# Altium schematic symbol library HyTechSymbols.SCHLIB: 59 symbols
Pins are listed as number, name and electrical type; pins without a type are passive.

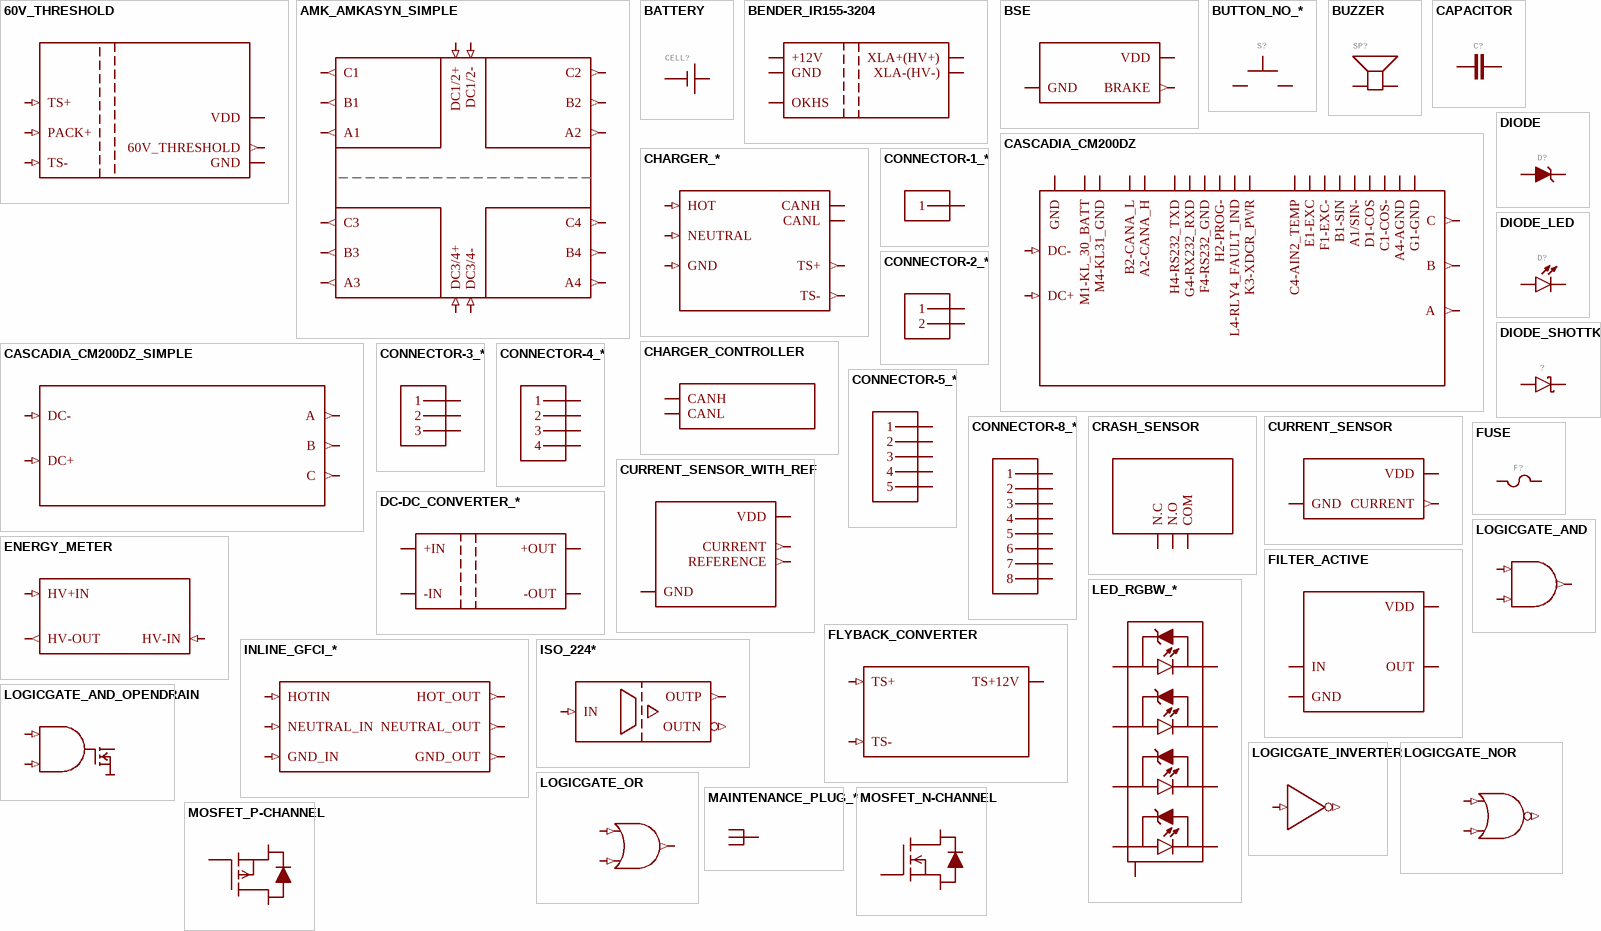
[diagram p0: symbols 60V_THRESHOLD to MOSFET_P-CHANNEL]

## 60V_THRESHOLD
designator A?, comment Block reprentation of the logic that indicates when the accumulator has reached 60V.  (value not drawn)
GateName_1: G$1; SymbolName_1: 60V_THRESHOLD; LibraryName: HyTechSymbols; DeviceSetName: 60V_THRESHOLD
pins: ?1 TS+ (in), ?2 PACK+ (in), ?3 TS- (in), ?4 GND (power), ?5 VDD (power), ?6 60V_THRESHOLD (out)

## AMK_AMKASYN_SIMPLE
designator ?, comment AMK AMKSYN  KW26-S5-FSE-4Q Inverter  (value not drawn)
GateName_1: G$1; SymbolName_1: AMK_AMKASYN_SIMPLE; LibraryName: HyTechSymbols; DeviceSetName: AMK_AMKASYN_SIMPLE
pins: ?1 C2 (out), ?2 B2 (out), ?3 A2 (out), ?4 DC3/4+ (in), ?5 DC3/4- (in), ?6 A1 (out), ?7 B1 (out), ?8 C1 (out), ?9 A3 (out), ?10 B3 (out), ?11 C3 (out), ?12 C4 (out), ?13 B4 (out), ?14 A4 (out), ?15 DC1/2+ (in), ?16 DC1/2- (in)

## BATTERY
designator CELL?
GateName_1: G$1; SymbolName_1: BATTERY; LibraryName: HyTechSymbols; DeviceSetName: BATTERY
pins: ?1 P$1 (power), ?2 P$2 (power)

## BENDER_IR155-3204
designator ?, comment Bender IR155-3204 Insulation Monitoring Device   Datasheet  (value not drawn)
GateName_1: G$1; SymbolName_1: BENDER_IR155-3204; LibraryName: HyTechSymbols; DeviceSetName: BENDER_IR155-3204
pins: ?1 GND (io), ?2 +12V (io), ?3 OKHS (io), ?4 XLA-(HV-) (io), ?5 XLA+(HV+) (io)

## BSE
designator A?, comment Brake system encoder  M3031-000005-2K5PG  (value not drawn)
MANUFACTURER: Sensata; MPN: 9360 Series; MANUFACTURER: TE Connectivity; GateName_1: G$1; SymbolName_1: BRAKE_SYSTEM_ENCODER; DeviceSetName: BSE; LibraryName: HyTechSymbols; MPN: M3031-000005-2K5PG
pins: ?1 BRAKE (out), ?2 VDD (power), ?3 GND (power)

## BUTTON_NO_*
designator S?, comment Normally open pushbutton  OTTO P9 Series Pushbutton Switches  OTTO LP9 Series Illuminated Pushbutton Switches  (value not drawn)
GateName_1: G$1; SymbolName_1: BUTTON_NO; DeviceSetName: BUTTON_NO_*; LibraryName: HyTechSymbols; MANUFACTURER: OTTO; MPN: LP9; MPN: P9
pins: ?1 P$1, ?2 P$2

## BUZZER
designator SP?, comment SPEAKER   Prouct Page (Ready to Drive Sound)   Source: Schukat  (value not drawn)
GateName_1: 1; SymbolName_1: BUZZER; LibraryName: HyTechSymbols; DeviceSetName: BUZZER
pins: ?1 1, ?2 2

## CAPACITOR
designator C?
GateName_1: G$1; SymbolName_1: CAPACITOR_VALUE; DeviceSetName: CAPACITOR; LibraryName: HyTechSymbols
pins: ?1 1, ?2 2

## CASCADIA_CM200DZ
designator A?, comment Cascaida Motion CM200DZ Motor Inverter  Product Page Datasheet  (value not drawn)
GateName_1: G$1; SymbolName_1: CASCADIA_CM200DZ; LibraryName: HyTechSymbols; DeviceSetName: CASCADIA_CM200DZ
pins: ?1 A (out), ?2 B (out), ?3 C (out), ?4 DC+ (in), ?5 DC- (in), ?6 B2-CANA_L (io), ?7 A2-CANA_H (io), ?8 M1-KL_30_BATT (power), ?9 M4-KL31_GND (power), ?10 H4-RS232_TXD (io), ?11 G4-RX232_RXD (io), ?12 H2-PROG- (io), ?13 L4-RLY4_FAULT_IND (io), ?14 F4-RS232_GND (power), ?15 E1-EXC (io), ?16 F1-EXC- (io), ?17 B1-SIN (io), ?18 A1/SIN- (io), ?19 D1-COS (io), ?20 C1-COS- (io), ?21 A4-AGND (power), ?22 C4-AIN2_TEMP (io), ?23 K3-XDCR_PWR (power), ?24 GND (power), ?25 G1-GND (power)

## CASCADIA_CM200DZ_SIMPLE
designator A?, comment Cascaida Motion CM200DZ Motor Inverter  Product Page Datasheet  (value not drawn)
GateName_1: G$1; SymbolName_1: CASCADIA_CM200DZ-SIMPLE; DeviceSetName: CASCADIA_CM200DZ_SIMPLE; LibraryName: HyTechSymbols
pins: ?1 A (out), ?2 B (out), ?3 C (out), ?4 DC+ (in), ?5 DC- (in)

## CHARGER_*
designator A?, comment OVARTECH Charger Cascadia Motion Charger  (value not drawn)
MANUFACTURER: OVAR; MPN: CAD662DF400-14152; MPN: G4-0017-01; MANUFACTURER: Elcon; MPN: HK-J-H650-12; GateName_1: G$1; SymbolName_1: BATTERY_CHARGER; DeviceSetName: CHARGER_*; LibraryName: HyTechSymbols; MANUFACTURER: Cascadia Motion
pins: ?1 TS+ (out), ?2 TS- (out), ?3 HOT (in), ?4 NEUTRAL (in), ?5 GND (in), ?6 CANH (io), ?7 CANL (io)

## CHARGER_CONTROLLER
designator A?, comment Block representation of the charger controller.  (value not drawn)
GateName_1: G$1; SymbolName_1: CHARGER_CONTROLLER; LibraryName: HyTechSymbols; DeviceSetName: CHARGER_CONTROLLER
pins: ?1 CANH (io), ?2 CANL (io)

## CONNECTOR-1_*
designator J?, comment Single pin connector  CT2242-2  LCAX2-14F-E  (value not drawn)
MPN: 10mm^2; MPN: 6mm^2; MANUFACTURER: Cal Test Electronics; MANUFACTURER: Panduit Corp; MANUFACTURER: Xinxi; MPN: X01-S01-T06S1-NM6; MPN: XX104-02-00-00B; GateName_1: G$1; SymbolName_1: CONNECTOR_01; DeviceSetName: CONNECTOR-1_*; LibraryName: HyTechSymbols; MPN: CT2242-2; MPN: LCAX2-14F-E
pins: ?1 1

## CONNECTOR-2_*
designator J?, comment Two pin connector  EVH2-N2TK-TDA  HPK  HVP800  (value not drawn)
MANUFACTURER: Molex; MPN: 0436500214; MANUFACTURER: Anderson Power Products; MPN: ASMFP30-1X2-RK; MANUFACTURER: Jonhon; MANUFACTURER: Hirose Electric; MPN: EM30MSD; MANUFACTURER: Rosenberger; MANUFACTURER: TE; MANUFACTURER: XINXI; MPN: XXC104-EV-P1ZA; GateName_1: G$1; SymbolName_1: CONNECTOR_02; DeviceSetName: CONNECTOR-2_*; LibraryName: HyTechSymbols; MPN: EVH2-N2TK-TDA; MPN: HPK; MPN: HVP800
pins: ?1 1, ?2 2

## CONNECTOR-3_*
designator J?, comment Three pin connector  XXC106-EV-P3Z    HV02-M3S(40A)-M00A-1    NEMA-5-20  (value not drawn)
MANUFACTURER: TE; MPN: 1-2371113-2; MPN: 2371035-2; MANUFACTURER: Jonhon; MANUFACTURER: NEMA; MPN: NEMA 5-20; MANUFACTURER: Xinxi; GateName_1: G$1; SymbolName_1: CONNECTOR_03; DeviceSetName: CONNECTOR-3_*; LibraryName: HyTechSymbols; MPN: HV02-M3S(40A)-M00A-1; MPN: XXC106-EV-P3Z
pins: ?1 1, ?2 2, ?3 3

## CONNECTOR-4_*
designator J?, comment Four pin connector  Micro-Fit 3.0  (value not drawn)
MANUFACTURER: Jonhon; MPN: EVH2-N4TK-TDA; MANUFACTURER: BADA; MPN: F02-629110-RA2; MANUFACTURER: Molex; GateName_1: G$1; SymbolName_1: CONNECTOR_04; DeviceSetName: CONNECTOR-4_*; LibraryName: HyTechSymbols; MPN: Micro-Fit 3.0
pins: ?1 1, ?2 2, ?3 3, ?4 4

## CONNECTOR-5_*
designator J?, comment Five pin connector  Micro-Fit 3.0  (value not drawn)
MANUFACTURER: Molex; MPN: 436500513; MPN: Microfit 3.0; GateName_1: G$1; SymbolName_1: CONNECTOR_05; DeviceSetName: CONNECTOR-5_*; LibraryName: HyTechSymbols
pins: ?1 1, ?2 2, ?3 3, ?4 4, ?5 5

## CONNECTOR-8_*
designator J?, comment Eight pin connector  Micro-Fit 3.0  (value not drawn)
MANUFACTURER: Molex; MPN: Microfit 3.0; GateName_1: G$1; SymbolName_1: CONNECTOR_08; DeviceSetName: CONNECTOR-8_*; LibraryName: HyTechSymbols
pins: ?1 1, ?2 2, ?3 3, ?4 4, ?5 5, ?6 6, ?7 7, ?8 8

## CRASH_SENSOR
designator ?, comment Sensata Crash Sensor  http://www.sensata.com/download/resettable-crash.pdf  (value not drawn)
GateName_1: G$1; SymbolName_1: CRASH_SENSOR; LibraryName: HyTechSymbols; DeviceSetName: CRASH_SENSOR
pins: ?1 N.C (io), ?2 N.O (io), ?3 COM (io)

## CURRENT_SENSOR
designator A?, comment Current sensor  ISB-100-A-802  (value not drawn)
MANUFACTURER: ICE Components; GateName_1: G$1; SymbolName_1: CURRENT_SENSOR; LibraryName: HyTechSymbols; DeviceSetName: CURRENT_SENSOR; MPN: ISB-100-A-802
pins: ?1 CURRENT (out), ?2 VDD (power), ?3 GND (power)

## CURRENT_SENSOR_WITH_REF
designator A?, comment Current sensor  ISB-100-A-802  (value not drawn)
MANUFACTURER: ICE Components; MPN: ISB-300-A-802; GateName_1: G$1; SymbolName_1: CURRENT_SENSOR_WITH_REF; LibraryName: HyTechSymbols; DeviceSetName: CURRENT_SENSOR_WITH_REF; MPN: ISB-100-A-802
pins: ?1 CURRENT (out), ?2 VDD (power), ?3 GND (power), ?4 REFERENCE (out)

## DC-DC_CONVERTER_*
designator ?, comment DC_DC Converter  Vicor DCM Series  (value not drawn)
MANUFACTURER: OVAR; MPN: CAD662DF400-14152; MANUFACTURER: Vicor Corporation; MPN: DCM4623TD2J13D0T70; GateName_1: G$1; SymbolName_1: DC-DC_CONVERTER; DeviceSetName: DC-DC_CONVERTER_*; LibraryName: HyTechSymbols
pins: ?1 +IN (io), ?2 -IN (io), ?3 +OUT (io), ?4 -OUT (io)

## DIODE
designator D?
GateName_1: G$1; SymbolName_1: DIODE_ZENER; DeviceSetName: DIODE; LibraryName: HyTechSymbols
pins: ?1 A, ?2 C

## DIODE_LED
designator D?
GateName_1: G$1; SymbolName_1: DIODE_LED; LibraryName: HyTechSymbols; DeviceSetName: DIODE_LED
pins: ?1 C, ?2 A

## DIODE_SHOTTKY
designator ?
GateName_1: G$1; SymbolName_1: DIODE_SCHOTTKY; DeviceSetName: DIODE_SHOTTKY; LibraryName: HyTechSymbols
pins: ?1 A, ?2 C

## ENERGY_METER
designator A?, comment Block representation of the FSAE energy meter.  (value not drawn)
GateName_1: G$1; SymbolName_1: ENERGY_METER; LibraryName: HyTechSymbols; DeviceSetName: ENERGY_METER
pins: ?1 HV-OUT (out), ?2 HV+IN (in), ?3 HV-IN (in)

## FILTER_ACTIVE
designator ?
MANUFACTURER: Analog Devices Inc.; MPN: MAX7400; GateName_1: G$1; SymbolName_1: FILTER_ACTIVE; FREQ: 1kHz; LibraryName: HyTechSymbols; DeviceSetName: FILTER_ACTIVE
pins: ?1 VDD (io), ?2 GND (io), ?3 IN (io), ?4 OUT (io)

## FLYBACK_CONVERTER
designator ?
GateName_1: G$1; SymbolName_1: FLYBACK_CONVERTER; LibraryName: HyTechSymbols; DeviceSetName: FLYBACK_CONVERTER
pins: ?1 TS+ (in), ?2 TS- (in), ?3 TS+12V (power)

## FUSE
designator F?
GateName_1: G$1; SymbolName_1: FUSE; LibraryName: HyTechSymbols; DeviceSetName: FUSE
pins: ?1 1, ?2 2

## INLINE_GFCI_*
designator A?, comment Inline GFCI  GFM20-3WC  (value not drawn)
GateName_1: G$1; SymbolName_1: INLINE_GFCI; DeviceSetName: INLINE_GFCI_*; MANFUACTURER: Leviton; LibraryName: HyTechSymbols; MPN: GFM20-3WC
pins: ?1 HOT_OUT (out), ?2 NEUTRAL_OUT (out), ?3 GND_OUT (out), ?4 HOTIN (in), ?5 NEUTRAL_IN (in), ?6 GND_IN (in)

## ISO_224*
designator U?, comment ISO224*: Isolated precision amplifier  Datasheet  (value not drawn)
MANUFACTURER: Texas Instruments; MPN: ISO224BDWVR; GateName_1: G$1; SymbolName_1: ISO224; DeviceSetName: ISO_224*; LibraryName: HyTechSymbols
pins: ?1 OUTN (out), ?2 OUTP (out), ?3 IN (in)

## LED_RGBW_*
designator D?, comment Inolux IN-505FCHWV RGBW LED   Datasheet< /a>  (value not drawn)
GateName_1: G$1; SymbolName_1: DIODE_LED_RGBW; DeviceSetName: LED_RGBW_*; LibraryName: HyTechSymbols; MANUFACTURER: Inolux; MPN: IN-505FCHWV
pins: ?1 RED+, ?2 GREEN+, ?3 BLUE+, ?4 WHITE+, ?5 RED-, ?6 GREEN-, ?7 BLUE-, ?8 WHITE-, ?9 THERMAL

## LOGICGATE_AND
designator U?
GateName_1: G$1; SymbolName_1: LOGICGATE_AND; LibraryName: HyTechSymbols; DeviceSetName: LOGICGATE_AND
pins: ?1 IN1 (in), ?2 IN2 (in), ?3 OUT (out)

## LOGICGATE_AND_OPENDRAIN
designator U?
GateName_1: G$1; SymbolName_1: LOGICGATE_AND_OPENDRAIN; LibraryName: HyTechSymbols; DeviceSetName: LOGICGATE_AND_OPENDRAIN
pins: ?1 IN1 (in), ?2 IN2 (in), ?3 OUT (oc)

## LOGICGATE_INVERTER
designator U?
GateName_1: G$1; SymbolName_1: LOGICGATE_INVERTER; LibraryName: HyTechSymbols; DeviceSetName: LOGICGATE_INVERTER
pins: ?1 IN (in), ?2 !IN (out)

## LOGICGATE_NOR
designator U?
GateName_1: G$1; SymbolName_1: LOGICGATE_NOR; LibraryName: HyTechSymbols; DeviceSetName: LOGICGATE_NOR
pins: ?1 IN1 (in), ?2 IN2 (in), ?3 OUT (out)

## LOGICGATE_OR
designator U?
GateName_1: G$1; SymbolName_1: LOGICGATE_OR; LibraryName: HyTechSymbols; DeviceSetName: LOGICGATE_OR
pins: ?1 IN1 (in), ?2 IN2 (in), ?3 OUT (out)

## MAINTENANCE_PLUG_*
designator ?
MANUFACTURER: TE; MPN: 104742-2; GateName_1: G$1; SymbolName_1: MAINTENANCE_PLUG; DeviceSetName: MAINTENANCE_PLUG_*; LibraryName: HyTechSymbols
pins: ?1 1, ?2 P$1

## MOSFET_N-CHANNEL
designator Q?
GateName_1: G$1; SymbolName_1: MOSFET_N-CHANNEL; LibraryName: HyTechSymbols; DeviceSetName: MOSFET_N-CHANNEL
pins: ?1 D, ?2 S, ?3 G

## MOSFET_P-CHANNEL
designator Q?
GateName_1: G$1; SymbolName_1: MOSFET_P-CHANNEL; LibraryName: HyTechSymbols; DeviceSetName: MOSFET_P-CHANNEL
pins: ?1 S, ?2 D, ?3 G

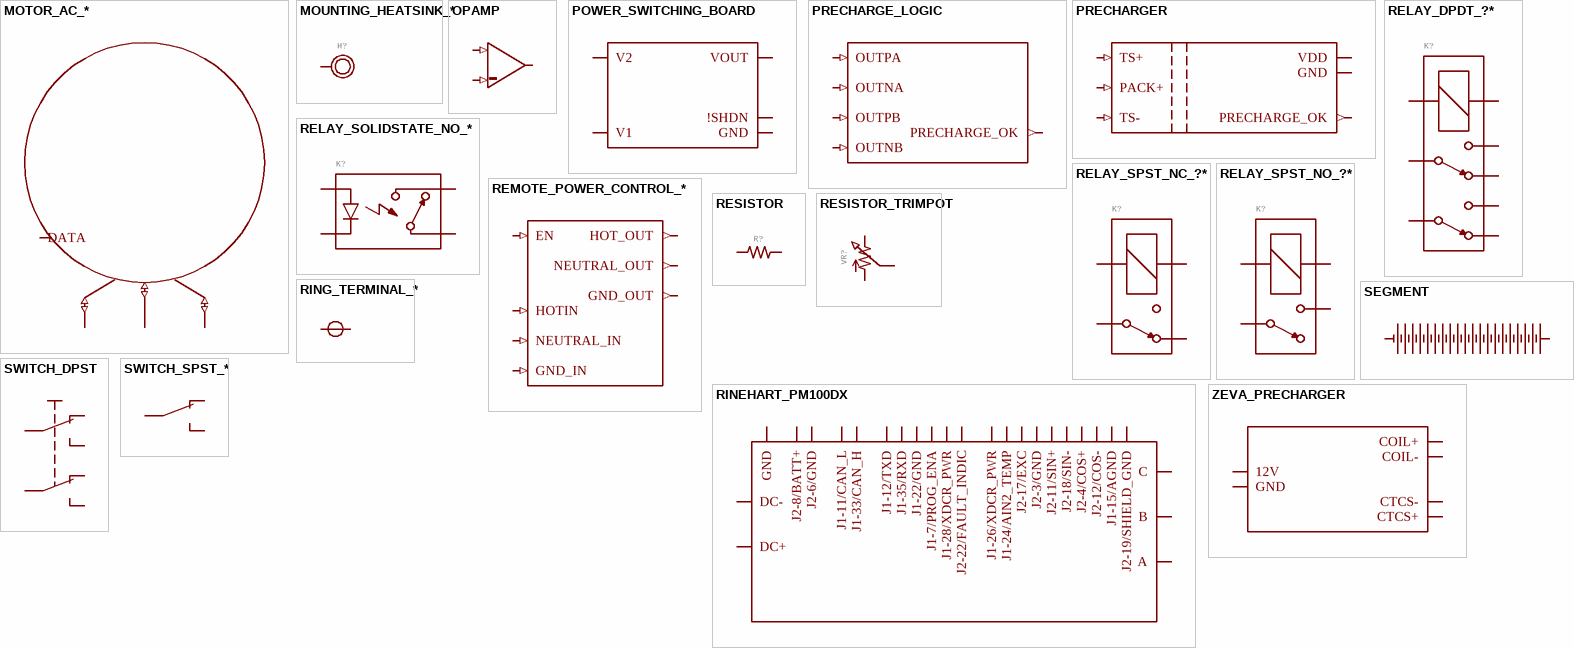
[diagram p1: symbols MOTOR_AC_* to ZEVA_PRECHARGER]

## MOTOR_AC_*
designator ?, comment Generic three-phase AC electric motor  (value not drawn)
MANUFACTURER: AMK; MPN: DD5-14-10-POW-18600-B5; MANUFACTURER: EMRAX; MPN: 208MV; GateName_1: G$1; SymbolName_1: MOTOR_AC; DeviceSetName: MOTOR_AC_*; LibraryName: HyTechSymbols
pins: ?1 B (io), ?2 A (io), ?3 C (io), ?4 DATA (io)

## MOUNTING_HEATSINK_*
designator H?, comment M3 Mounting Hole  Datasheet  (value not drawn)
GateName_1: G$1; SymbolName_1: MOUNTING_HEATSINK; DeviceSetName: MOUNTING_HEATSINK_*; LibraryName: HyTechSymbols
pins: ?1 P$1

## OPAMP
designator U?
GateName_1: G$1; SymbolName_1: OPAMP; LibraryName: HyTechSymbols; DeviceSetName: OPAMP
pins: ?1 VIN- (in), ?2 VIN+ (in), ?3 VOUT (out)

## POWER_SWITCHING_BOARD
designator ?
GateName_1: G$1; SymbolName_1: POWER_SWITCHING_BOARD; LibraryName: HyTechSymbols; DeviceSetName: POWER_SWITCHING_BOARD
pins: ?1 VOUT (io), ?2 GND (io), ?3 !SHDN (io), ?4 V1 (io), ?5 V2 (io)

## PRECHARGE_LOGIC
designator A?, comment Block representation of the precharge logic.  (value not drawn)
GateName_1: G$1; SymbolName_1: PRECHARGE_LOGIC; LibraryName: HyTechSymbols; DeviceSetName: PRECHARGE_LOGIC
pins: ?1 OUTPA (in), ?2 OUTNA (in), ?3 OUTPB (in), ?4 OUTNB (in), ?5 PRECHARGE_OK (out)

## PRECHARGER
designator A?, comment Block representation of the HT06 precharger.  (value not drawn)
GateName_1: G$1; SymbolName_1: PRECHARGER; LibraryName: HyTechSymbols; DeviceSetName: PRECHARGER
pins: ?1 TS+ (in), ?2 PACK+ (in), ?3 PRECHARGE_OK (out), ?4 TS- (in), ?5 VDD (power), ?6 GND (power)

## RELAY_DPDT_?*
designator K?, comment Dual pole dual throw relay  RT424009  (value not drawn)
MANUFACTURER: TE Connectivity Potter & Brumfield Relays; MPN: RT424024; GateName_1: G$1; SymbolName_1: RELAY_DPDT; DeviceSetName: RELAY_DPDT_?*; LibraryName: HyTechSymbols; MPN: RT424009
pins: ?1 2 (io), ?2 3 (io), ?3 4 (io), ?4 5 (io), ?5 6 (io), ?6 7 (io), ?7 COIL+ (io), ?8 COIL- (io)

## RELAY_SOLIDSTATE_NO_*
designator K?, comment Solid-state single pole single throw normally open relay  CMX60D20  (value not drawn)
MANUFACTURER: Panasonic Industrial Devices; MPN: AQY214EHA; MANUFACTURER: Crydom; GateName_1: G$1; SymbolName_1: RELAY_SOLIDSTATE_NO; DeviceSetName: RELAY_SOLIDSTATE_NO_*; LibraryName: HyTechSymbols; MPN: CMX60D20
pins: ?1 CONTROL+, ?2 CONTROL-, ?3 CONTACT1 (io), ?4 CONTACT2 (io)

## RELAY_SPST_NC_?*
designator K?, comment Single pole single throw normally closed relay  3350-4275-126  (value not drawn)
MANUFACTURER: Comus; MANUFACTURER: Sensata; MPN: DBR72410; GateName_1: G$1; SymbolName_1: RELAY_SPST_NC; DeviceSetName: RELAY_SPST_NC_?*; LibraryName: HyTechSymbols; MPN: 3350-4275-126
pins: ?1 CONTACT2 (io), ?2 CONTACT1 (io), ?3 COIL+ (io), ?4 COIL- (io)

## RELAY_SPST_NO_?*
designator K?, comment Single pole single throw normally open relay  3350-1275-126  GX23BA  (value not drawn)
MANUFACTURER: Comus; MANUFACTURER: Sensata; MPN: DAR72410; MANUFACTURER: Gigavac; GateName_1: G$1; SymbolName_1: RELAY_SPST_NO; DeviceSetName: RELAY_SPST_NO_?*; LibraryName: HyTechSymbols; MPN: 3350-1275-126; MPN: GX23BA
pins: ?1 CONTACT1 (io), ?2 CONTACT2 (io), ?3 COIL+ (io), ?4 COIL- (io)

## REMOTE_POWER_CONTROL_*
designator A?, comment Remote power control  RPC-20-SCD  (value not drawn)
MANUFACTURER: Lowell Manufacturing; GateName_1: G$1; SymbolName_1: REMOTE_POWER_CONTROL; DeviceSetName: REMOTE_POWER_CONTROL_*; LibraryName: HyTechSymbols; MPN: RPC-20-SCD
pins: ?1 HOT_OUT (out), ?2 NEUTRAL_OUT (out), ?3 GND_OUT (out), ?4 EN (in), ?5 HOTIN (in), ?6 NEUTRAL_IN (in), ?7 GND_IN (in)

## RESISTOR
designator R?
GateName_1: G$1; SymbolName_1: RESISTOR_VALUE; DeviceSetName: RESISTOR; LibraryName: HyTechSymbols
pins: ?1 1, ?2 2

## RESISTOR_TRIMPOT
designator VR?
GateName_1: G$1; SymbolName_1: RESISTOR_TRIMPOT; LibraryName: HyTechSymbols; DeviceSetName: RESISTOR_TRIMPOT
pins: ?1 1, ?2 2, ?3 P$1

## RINEHART_PM100DX
designator ?, comment Rinehart Motion Systems PM100DX Motor Inverter  Product Page Datasheet  (value not drawn)
GateName_1: G$1; SymbolName_1: RINEHART_PM100DX; LibraryName: HyTechSymbols; DeviceSetName: RINEHART_PM100DX
pins: ?1 A (io), ?2 B (io), ?3 C (io), ?4 DC+ (io), ?5 DC- (io), ?6 J1-11/CAN_L (io), ?7 J1-33/CAN_H (io), ?8 J2-8/BATT+ (io), ?9 J2-6/GND (io), ?10 J1-12/TXD (io), ?11 J1-35/RXD (io), ?12 J1-7/PROG_ENA (io), ?13 J2-22/FAULT_INDIC (io), ?14 J1-22/GND (io), ?15 J2-17/EXC (io), ?16 J2-3/GND (io), ?17 J2-11/SIN+ (io), ?18 J2-18/SIN- (io), ?19 J2-4/COS+ (io), ?20 J2-12/COS- (io), ?21 J1-15/AGND (io), ?22 J1-24/AIN2_TEMP (io), ?23 J1-28/XDCR_PWR (io), ?24 J1-26/XDCR_PWR (io), ?25 GND (io), ?26 J2-19/SHIELD_GND (io)

## RING_TERMINAL_*
designator J?, comment Ring terminal  19054-0042  (value not drawn)
MANUFACTURER: Panduit Corp; MPN: S2/0-14R-C; MANUFACTURER: Molex; MPN: LCMA10-6-C; GateName_1: G$1; SymbolName_1: RING_TERMINAL; DeviceSetName: RING_TERMINAL_*; LibraryName: HyTechSymbols; MPN: 19054-0042
pins: ?1 P$1, ?2 P$2

## SEGMENT
designator ?
GateName_1: G$1; SymbolName_1: SEGMENT; LibraryName: HyTechSymbols; DeviceSetName: SEGMENT
pins: ?1 + (power), ?2 - (power)

## SWITCH_DPST
designator S?, comment Double Pull Single Throw Switch  (value not drawn)
GateName_1: DPST; SymbolName_1: SWITCH_DPST; LibraryName: HyTechSymbols; DeviceSetName: SWITCH_DPST
pins: ?1 P, ?2 P1, ?3 S, ?4 O, ?5 O1, ?6 S1

## SWITCH_SPST_*
designator S?, comment Single Pull Single Throw Switch  EAO Series 61 27mm Illuminated Emergency Stop Swtich  EAO Series 45 40mm Illuminated Emergency Stop Swtich  EAO Series 45 34mm Illuminated Emergency Stop Switch  TE Battery Disconnector Switch  (value not drawn)
MPN: Series 61 E-Stop; MPN: Series 45 E-Stop; MANUFACTURER: TE-Kissling; MPN: 35-210-100-R-900; MANUFACTURER: Sensata; MPN: Crash Sensor; GateName_1: SPST; SymbolName_1: SWITCH_SPST; DeviceSetName: SWITCH_SPST_*; LibraryName: HyTechSymbols; MANUFACTURER: EAO
pins: ?1 P, ?2 S, ?3 O

## ZEVA_PRECHARGER
designator ?, comment Smart Precharger  http://www.zeva.com.au/Products/datasheets/SmartPrechargerV1-3.pdf  (value not drawn)
GateName_1: G$1; SymbolName_1: SMART_PRECHARGER; DeviceSetName: ZEVA_PRECHARGER; LibraryName: HyTechSymbols
pins: ?1 COIL+ (io), ?2 COIL- (io), ?3 CTCS- (io), ?4 CTCS+ (io), ?5 12V (io), ?6 GND (io)